# EAGLE library part ATSAMD09_(?) (library atmel)
SMART ARM-Based Microcontroller The Atmel® | SMART™ SAM D09 is a series of low-power microcontrollers using the 32-bit ARM® Cortex®-M0+ processor, and ranging from 14- to 24-pins with up to16KB Flash and 4KB of SRAM. The SAM D09 devices operate at a maximum frequency of 48MHz and reach 2.46 Coremark/MHz.
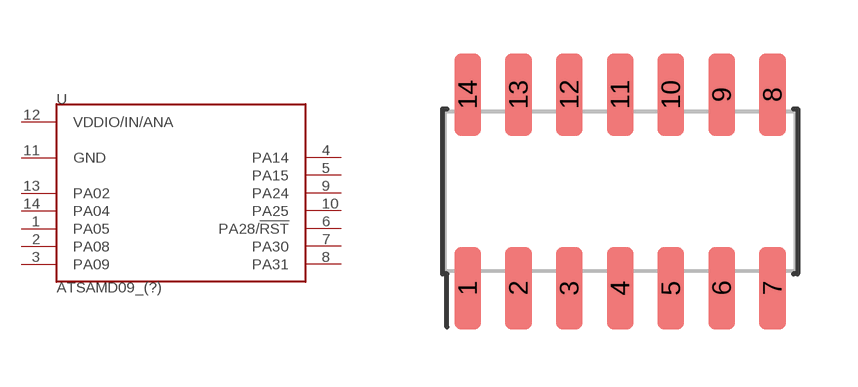
[diagram p1: symbol with the pads of SOIC14P127_865X600X155L84X42T0X0N_10X20X20L44X9; footprint SOIC14P127_865X600X155L84X42T0X0N_10X20X20L44X9]

Designator prefix U

## ATSAMD09_(ATSAMD09C13A-SSUT) (HEIGHT: 1.75; IDF_FAMILYNAME: JEDEC_MS-012F; IDF_PARTNUMBER: AB; PARTNUMBER: ATSAMD09C13A-SSUT)  [SOIC14P127_865X600X155L84X42T0X0N_10X20X20L44X9]
1  PA05
2  PA08
3  PA09
4  PA14
5  PA15
6  PA28/!RST
7  PA30
8  PA31
9  PA24
10  PA25
11  GND  pwr
12  VDDIO/IN/ANA  pwr
13  PA02
14  PA04

## Footprint SOIC14P127_865X600X155L84X42T0X0N_10X20X20L44X9 (pad centres in mm)
Small Outline Integrated Circuit (14 pins, 1.27mm pitch) Nominal Material Condition Body (LxWxH): 8.65mm x 3.90mm x 1.55mm Lead (L): 0.83mm IPC Component Parameters materialCondition | 1 | Nominal (Nominal Density) n | 14 e | 1.270000 A | 1.350000 | 1.750000 D | 8.550000 | 8.750000 E | 5.800000 | 6.200000 E1 | 3.800000 | 4.000000 b | 0.330000 | 0.510000 L | 0.400000 | 1.270000 ep_D2 | 0.000000 ep_E2 | 0.000000 ep_tr | 0.000000 ep_tc | 0.000000 ep_pmc | 100.000000 ep_pmp | 0 | solid ep_pmspace | 0.500000 IPC Library Parameters fabTol | 0.050000 placeTol | 0.025000 padPlaceRoundOff | 0.010000 padSizeRoundOff | 0.010000 cornerRadius | 25.000000 cornerRadiusLimit | 0.250000 cornerRadiusRoundOff | 0.010000 thtPadSizeRoundOff | 0.010000 thtCourtyardExcess | 0.250000 thtCourtyardRound | 0.010000 thtHoleOverRoundLead | 0.200000 thtHoleOverRectangularLead | 0.150000 thtMinimumAnnularRing | 0.200000 thtPadToHoleRatio | 1.500000 courtyardLineWidth | 0.050000 legendLineWidth | 0.100000 | 0.120000 | 0.150000 legendClearance | 0.100000 | 0.120000 | 0.150000 legendFontHeight | 1.000000 | 1.200000 | 1.500000 legendFontRatio | 10.000000 legendRoundOff | 0.010000 componentFontHeight | 2.000000 componentLineWidth | 0.100000 componentRoundOff | 0.010000 Package generated by: sop.ulp
smd 0.67 x 2.07: 1 -3.81,-2.42; 2 -2.54,-2.42; 3 -1.27,-2.42; 4 0,-2.42; 5 1.27,-2.42; 6 2.54,-2.42; 7 3.81,-2.42; 8 3.81,2.42; 9 2.54,2.42; 10 1.27,2.42; 11 0,2.42; 12 -1.27,2.42; 13 -2.54,2.42; 14 -3.81,2.42